# Altium schematic symbol library CAP002DG.Schlib: 1 symbol
Pins are listed as number, name and electrical type; pins without a type are passive.

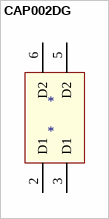
[diagram p0: symbol CAP002DG]

## CAP002DG
designator *
pins: 2 D1, 3 D1, 5 D2, 6 D2